# EAGLE library part 1X9 (library CONNECTORS)
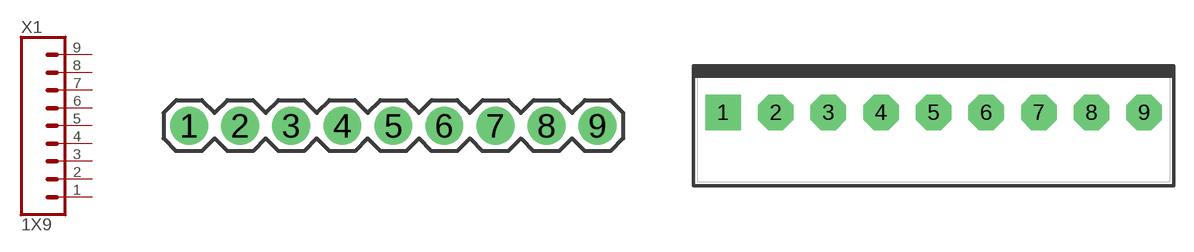
[diagram p3: symbol with the pads of 1X09DUPON; footprints 1X09DUPON, B9P-VH]

Designator prefix X1

## 1X9DUPON  [1X09DUPON]
1  1  pas
2  2  pas
3  3  pas
4  4  pas
5  5  pas
6  6  pas
7  7  pas
8  8  pas
9  9  pas

## 1X9B9P-VH  [B9P-VH]
Pads as for 1X09DUPON

## 1X9MOLEX-09  [MOLEX-09]
Pads as for 1X09DUPON

## 1X9JST-XH-09  [JST-XH-09]
Pads as for 1X09DUPON

## Footprint 1X09DUPON (pad centres in mm)
drill 1.016 pad 1.88: 1 0,0; 2 2.54,0; 3 5.08,0; 4 7.62,0; 5 10.16,0; 6 12.7,0; 7 15.24,0; 8 17.78,0; 9 20.32,0

## Footprint B9P-VH (pad centres in mm)
HEADER
drill 1.778 square: 1 -15.84,0
drill 1.778 octagon: 2 -11.88,0; 3 -7.92,0; 4 -3.96,0; 5 0,0; 6 3.96,0; 7 7.92,0; 8 11.88,0; 9 15.84,0

## Footprint MOLEX-09 (pad centres in mm)
KK® 254 Solid Header, Vertical, with Friction Lock, 9 Circuits, Tin (Sn) Plating Datasheet <http://www.molex.com/pdm_docs/sd/022232091_sd.pdf>
drill 1 long: 1 -10.16,0; 2 -7.62,0; 3 -5.08,0; 4 -2.54,0; 5 0,0; 6 2.54,0; 7 5.08,0; 8 7.62,0; 9 10.16,0

## Footprint JST-XH-09 (pad centres in mm)
JST XH Connector Long Pads (Package) Wire to board connector. Pitch: 2,54 mm, (0.100") Number of pins: 9 Created by Rembrandt Electronics www.rembrandtelectronics.com
drill 1.016 long: 1 -10.16,0; 2 -7.62,0; 3 -5.08,0; 4 -2.54,0; 5 0,0; 6 2.54,0; 7 5.08,0; 8 7.62,0; 9 10.16,0